# Altium integrated library Unified Capacitors.IntLib: 30 symbols
Pins are listed as number, name and electrical type; pins without a type are passive.

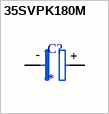
[diagram p0: symbol 35SVPK180M]

## 35SVPK180M
designator C?
180uF, 35V, ±20 %; Tolerance: ±20 %; Value: 180uF; Voltage: 35V; Temperature range: -55 to +125 °C
footprint SVPK, case E12
pins: 1 +, 2 +
text: -


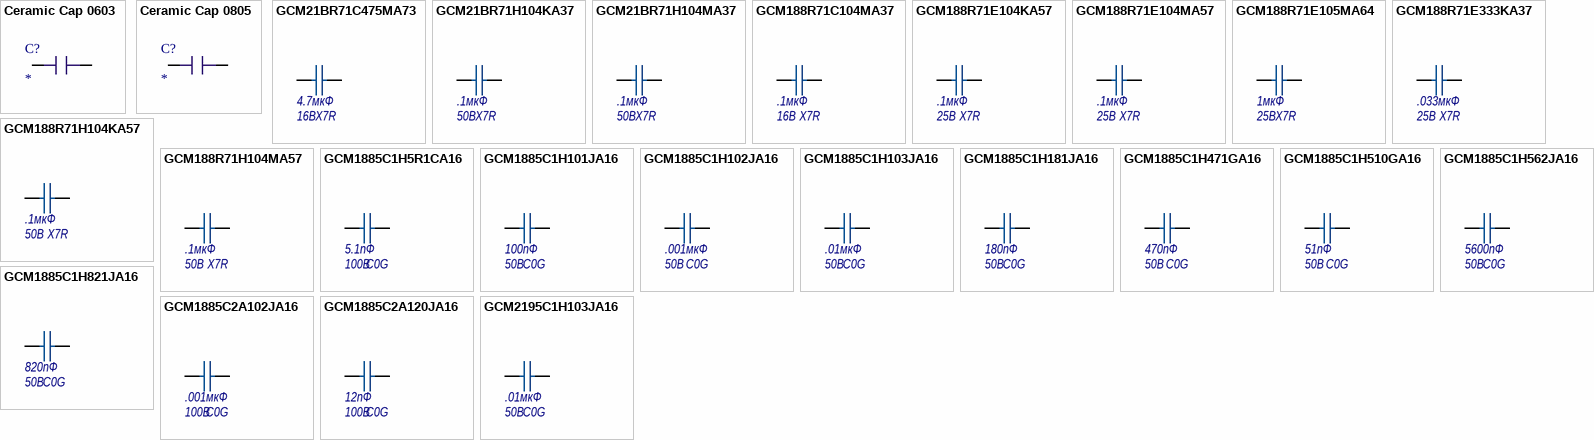
[diagram p1: symbols Ceramic Cap 0603 to GCM2195C1H103JA16]

## Ceramic Cap 0603
designator C?
Value: *; Dieletric: *; Tolerance: *; Voltage: *; Type: *
footprint CAP0603
pins: 1, 2

## Ceramic Cap 0805
designator C?
footprint CAP0805
pins: 1, 2

## GCM21BR71C475MA73
designator C?  value 4.7мкФ  ValueII: X7R  ValueI: 16В
ID: GCM21BR71C475MA73; ValueIII: 20%; Voltage: *
footprint CAP0805
pins: 1, 2

## GCM21BR71H104KA37
designator C?  value .1мкФ  ValueII: X7R  ValueI: 50В
ID: GCM21BR71H104KA37#; ValueIII: 10%; Voltage: *
footprint CAP0805
pins: 1, 2

## GCM21BR71H104MA37
designator C?  value .1мкФ  ValueII: X7R  ValueI: 50В
ID: GCM21BR71H104MA37#; ValueIII: 20%; Voltage: *
footprint CAP0805
pins: 1, 2

## GCM188R71C104MA37
designator C?  value .1мкФ  ValueII: X7R  ValueI: 16В
ID: GCM188R71C104MA37; ValueIII: 20%; Voltage: *
footprint CAP0603
pins: 1, 2

## GCM188R71E104KA57
designator C?  value .1мкФ  ValueII: X7R  ValueI: 25В
ID: GCM188R71E104KA57; ValueIII: 10%; Voltage: *
footprint CAP0603
pins: 1, 2

## GCM188R71E104MA57
designator C?  value .1мкФ  ValueII: X7R  ValueI: 25В
ID: GCM188R71E104MA57; ValueIII: 20%; Voltage: *
footprint CAP0603
pins: 1, 2

## GCM188R71E105MA64
designator C?  value 1мкФ  ValueII: X7R  ValueI: 25В
ID: GCM188R71E105MA64#; ValueIII: 20%; Voltage: *
footprint CAP0603
pins: 1, 2

## GCM188R71E333KA37
designator C?  value .033мкФ  ValueII: X7R  ValueI: 25В  (hidden comment: GCM188R71E333KA37)
ValueIII: 20%; ID: GCM188R71E333KA37; Voltage: *
footprint CAP0603
pins: 1, 2

## GCM188R71H104KA57
designator C?  value .1мкФ  ValueII: X7R  ValueI: 50В
ID: GCM188R71H104KA57; ValueIII: 10%; Voltage: *
footprint CAP0603
pins: 1, 2

## GCM188R71H104MA57
designator C?  value .1мкФ  ValueII: X7R  ValueI: 50В
ID: GCM188R71H104MA57; ValueIII: 20%; Voltage: *
footprint CAP0603
pins: 1, 2

## GCM1885C1H5R1CA16
designator C?  value 5.1пФ  ValueII: C0G  ValueI: 100В
ID: GCM1885C1H5R1CA16#; ValueIII: 0.25пФ; Voltage: *
footprint CAP0603
pins: 1, 2

## GCM1885C1H101JA16
designator C?  value 100пФ  ValueII: C0G  ValueI: 50В
ID: GCM1885C1H101JA16; ValueIII: 5%; Voltage: *
footprint CAP0603
pins: 1, 2

## GCM1885C1H102JA16
designator C?  value .001мкФ  ValueII: C0G  ValueI: 50В
ID: GCM1885C1H102JA16; ValueIII: 5%; Voltage: *
footprint CAP0603
pins: 1, 2

## GCM1885C1H103JA16
designator C?  value .01мкФ  ValueII: C0G  ValueI: 50В
ID: GCM1885C1H103JA16; ValueIII: 5%; Voltage: *
footprint CAP0603
pins: 1, 2

## GCM1885C1H181JA16
designator C?  value 180пФ  ValueII: C0G  ValueI: 50В
ID: GCM1885C1H181JA16; ValueIII: 5%; Voltage: *
footprint CAP0603
pins: 1, 2

## GCM1885C1H471GA16
designator C?  value 470пФ  ValueII: C0G  ValueI: 50В
ValueIII: 0.25пФ; ID: GCM1885C1H471GA16; Voltage: *
footprint CAP0603
pins: 1, 2

## GCM1885C1H510GA16
designator C?  value 51пФ  ValueII: C0G  ValueI: 50В
ValueIII: 0.25пФ; ID: GCM1885C1H510GA16; Voltage: *
footprint CAP0603
pins: 1, 2

## GCM1885C1H562JA16
designator C?  value 5600пФ  ValueII: C0G  ValueI: 50В
ID: GCM1885C1H562JA16; ValueIII: 5%; Voltage: *
footprint CAP0603
pins: 1, 2

## GCM1885C1H821JA16
designator C?  value 820пФ  ValueII: C0G  ValueI: 50В
ID: GCM1885C1H821JA16; ValueIII: 5%; Voltage: *
footprint CAP0603
pins: 1, 2

## GCM1885C2A102JA16
designator C?  value .001мкФ  ValueII: C0G  ValueI: 100В
ID: GCM1885C2A102JA16; ValueIII: 5%; Voltage: *
footprint CAP0603
pins: 1, 2

## GCM1885C2A120JA16
designator C?  value 12пФ  ValueII: C0G  ValueI: 100В
ID: GCM1885C2A120JA16; ValueIII: 5%; Voltage: *
footprint CAP0603
pins: 1, 2

## GCM2195C1H103JA16
designator C?  value .01мкФ  ValueII: C0G  ValueI: 50В
ID: GCM2195C1H103JA16; ValueIII: 5%
footprint CAP0805
pins: 1, 2


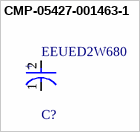
[diagram p2: symbol CMP-05427-001463-1]

## CMP-05427-001463-1
designator C?, comment EEUED2W680
Aluminum Electrolytic Capacitors (Radial Lead Type) 68uF ±20% 450V; Polarity: Polar; Lead Diameter: 0.8mm; Dissipation Factor: 0.24%; Ripple Current (AC): 1.3A; Life (Hours): 10000Hour; Dielectric Material: Aluminium; Number of Pins: 2; REACH SVHC: No SVHC; Height - Seated (Max): 1.575inch; Series: ED; Min Operating Temperature: -25°C; Packaging: Bulk; Height: 40mm; Mount: Through Hole; Termination: Radial; Case/Package: Radial; Max Operating Temperature: 105°C; RoHS Compliant: Yes; Length: 40mm; Voltage Rating (DC): 450V; Capacitance: 68uF; Voltage: 450V; Construction: RADIAL; Lead Pitch: 7.5mm; Lead Free: Lead Free; Radiation Hardening: No; Package Quantity: 50; Ripple Current: 1.3A; Voltage Rating: 450V; Tolerance: 20%; Diameter: 18mm
footprint FP-RAD-TH-D_18_0_5-L_40_2-MFG H
pins: 1 C, 2 A
text: +


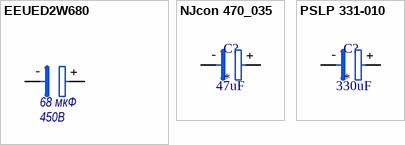
[diagram p3: symbols EEUED2W680 to PSLP 331-010]

## EEUED2W680
designator *  value 68 мкФ  ValueI: 450В
footprint EEUED2W680
pins: 1 +, 2 +
text: -

## NJcon 470_035
designator C?  value 47uF
NJcon 470_035 10X6.13mm, 47uF, 35V; Tolerance: ±20 %; Temperature range: -55 to +105 °C; Voltage: 35V
footprint Case 10*13
pins: 1 +, 2 +
text: -

## PSLP 331-010
designator C?  value 330uF
Wurth PSLP 331-010 6.6X6.6X7.7 mm, 330uF, 10V; Tolerance: ±20 %; Temperature range: -55 to +105 °C; Voltage: 10V
footprint PSLP 6.6x6.6x7.7mm
pins: 1 +, 2 +
text: -


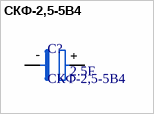
[diagram p4: symbol СКФ-2,5-5В4]

## СКФ-2,5-5В4
designator C?  value 2.5F
footprint CH? (СКФ-2,5-5В4)
footprint Cv? (vertical orientation)
footprint C10deg (horizontal, 10deg rotation)
pins: 1 +, 2 +
text: -